# EAGLE library part USB (library ATSAME51G19A_CAN_BREAKOUT)
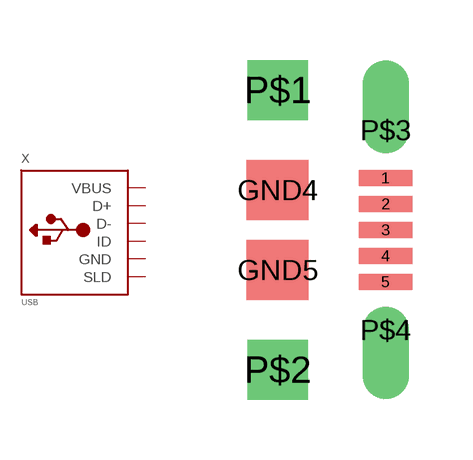
[diagram p3: symbol with the pads of 10118194; footprint 10118194]

Designator prefix X

## USB (MPN: 10118194-0001LF)  [10118194]
1  VBUS  out
2  D-
3  D+
4  ID
5  GND  pwr
GND4  SLD
GND5  SLD
P$1  SLD
P$2  SLD
P$3  SLD
P$4  SLD

## Footprint 10118194 (pad centres in mm)
smd 1.35 x 0.4: 1 0,1.3; 2 0,0.65; 3 0,0; 4 0,-0.65; 5 0,-1.3
smd 1.55 x 1.5: GND4 -2.7,1; GND5 -2.7,-1
drill 1 pad 1.5 square: P$1 -2.7,3.5; P$2 -2.7,-3.5
drill 0.65 pad 1.15 offset: P$3 0,2.5; P$4 0,-2.5